# EAGLE library part VARISCITE_DART-SD410 (library m_som)
Variscite DART-SD410 System on Module Snapdragon TM 410 - based System-on-Module 1.1. General Information The DART-SD410 is a high performance System-on-Module. It provides an ideal building block that easily integrates with a wide range of target markets requiring rich multimedia functionality, powerful graphics and video capabilities, as well as high-processing power. Compact, cost effective and with low power consumption, the DART-SD410 is in ideal choice for a high end products. Supporting products: VAR-SD410CustomBoard – evaluation board Carrier-Board, compatible with DART-SD410 Schematics Dual CSI Camera extension board O.S support Linux BSP Android Windows 10 (coming soon) Contact Variscite support services for further information: mailto:support@variscite.com. 1.2. Feature Summary Qualcomm Snapdragon 410 Quad Core ARM® CortexTM-A53, 64 bit, 1.2 GHz Memory: up to 16GB eMMC and 2GB LPDDR3 (32-bit up to 533MHz) Display: 1 x MIPI-DSI 4-lane - HD (1280 x 720) 60 fps; 16/18/24 bpp RGB Camera: 2 x MIPI-CSI, 4-lane up to 13MP and 2-lane up to 8MP Wi-Fi/BT/FM Connectivity IC with single band 2.4GHz 802.11 b/g/n, Bluetooth 4.0/BLE and backward BT2.1+EDR / BT3.0, Worldwide FM radio GNSS receiver for GPS, BeiDou and GLONASS or Galileo operation 1 x USB2.0 Host/Device 1 x SD/MMC Serial interfaces (SPI, I2C, UART, I2S, UIM) JTAG 2 x Microphone In, Stereo headphones out, Speaker Out Digital microphone Single 3.7V-4.5V power supply 2 x 90 pin Board to Board Connectors Small size: 25mm x 43mm x 4mm Added 2016-06-25 Updated 2016-08-15
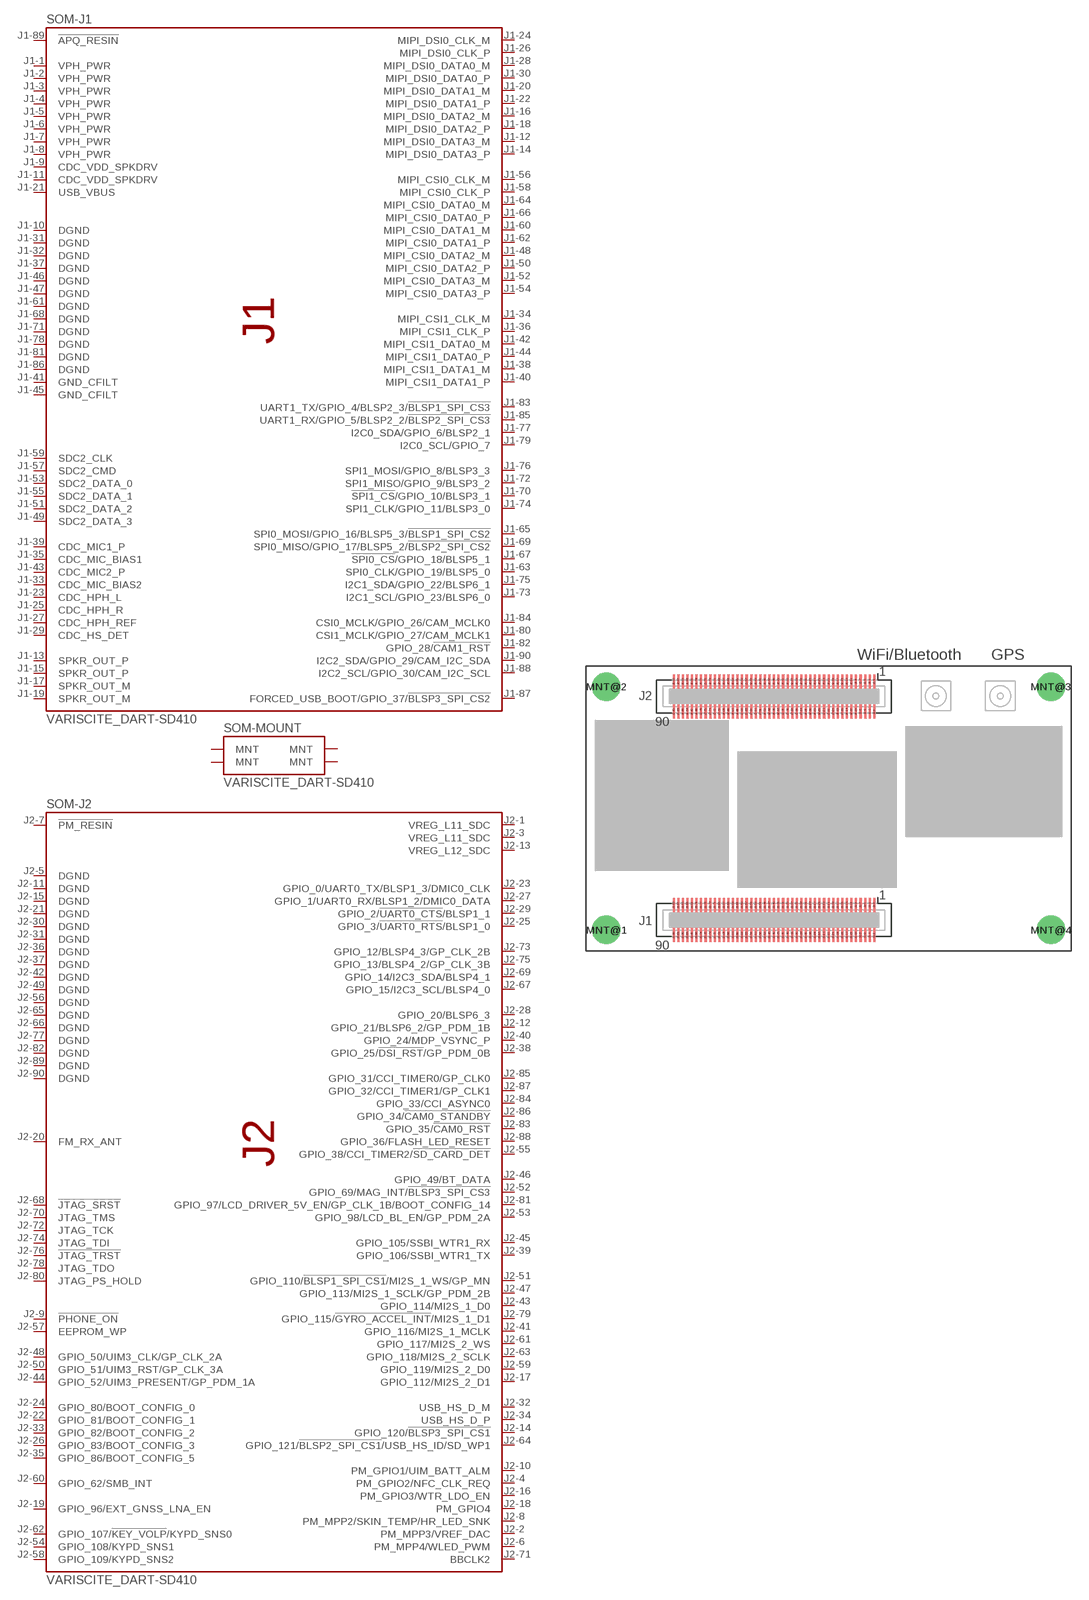
[diagram p0: symbol with the pads of VARISCITE_DART-SD410; footprint VARISCITE_DART-SD410]

Designator prefix SOM; gates -J1=VARISCITE_DART-SD410_J1 -J2=VARISCITE_DART-SD410_J2 -MOUNT=VARISCITE_DART-SD410_MOUNT

## VARISCITE_DART-SD410 (MANUF: Variscite; PARTNUM: DART-SD410_1024R_8G_WB_GP)  [VARISCITE_DART-SD410]
J1-1  -J1:VPH_PWR  pas
J1-2  -J1:VPH_PWR  pas
J1-3  -J1:VPH_PWR  pas
J1-4  -J1:VPH_PWR  pas
J1-5  -J1:VPH_PWR  pas
J1-6  -J1:VPH_PWR  pas
J1-7  -J1:VPH_PWR  pas
J1-8  -J1:VPH_PWR  pas
J1-9  -J1:CDC_VDD_SPKDRV  pas
J1-10  -J1:DGND  pas
J1-11  -J1:CDC_VDD_SPKDRV  pas
J1-12  -J1:MIPI_DSI0_DATA3_M  pas
J1-13  -J1:SPKR_OUT_P  pas
J1-14  -J1:MIPI_DSI0_DATA3_P  pas
J1-15  -J1:SPKR_OUT_P  pas
J1-16  -J1:MIPI_DSI0_DATA2_M  pas
J1-17  -J1:SPKR_OUT_M  pas
J1-18  -J1:MIPI_DSI0_DATA2_P  pas
J1-19  -J1:SPKR_OUT_M  pas
J1-20  -J1:MIPI_DSI0_DATA1_M  pas
J1-21  -J1:USB_VBUS  pas
J1-22  -J1:MIPI_DSI0_DATA1_P  pas
J1-23  -J1:CDC_HPH_L  pas
J1-24  -J1:MIPI_DSI0_CLK_M  pas
J1-25  -J1:CDC_HPH_R  pas
J1-26  -J1:MIPI_DSI0_CLK_P  pas
J1-27  -J1:CDC_HPH_REF  pas
J1-28  -J1:MIPI_DSI0_DATA0_M  pas
J1-29  -J1:CDC_HS_DET  pas
J1-30  -J1:MIPI_DSI0_DATA0_P  pas
J1-31  -J1:DGND  pas
J1-32  -J1:DGND  pas
J1-33  -J1:CDC_MIC_BIAS2  pas
J1-34  -J1:MIPI_CSI1_CLK_M  pas
J1-35  -J1:CDC_MIC_BIAS1  pas
J1-36  -J1:MIPI_CSI1_CLK_P  pas
J1-37  -J1:DGND  pas
J1-38  -J1:MIPI_CSI1_DATA1_M  pas
J1-39  -J1:CDC_MIC1_P  pas
J1-40  -J1:MIPI_CSI1_DATA1_P  pas
J1-41  -J1:GND_CFILT  pas
J1-42  -J1:MIPI_CSI1_DATA0_M  pas
J1-43  -J1:CDC_MIC2_P  pas
J1-44  -J1:MIPI_CSI1_DATA0_P  pas
J1-45  -J1:GND_CFILT  pas
J1-46  -J1:DGND  pas
J1-47  -J1:DGND  pas
J1-48  -J1:MIPI_CSI0_DATA2_M  pas
J1-49  -J1:SDC2_DATA_3  pas
J1-50  -J1:MIPI_CSI0_DATA2_P  pas
J1-51  -J1:SDC2_DATA_2  pas
J1-52  -J1:MIPI_CSI0_DATA3_M  pas
J1-53  -J1:SDC2_DATA_0  pas
J1-54  -J1:MIPI_CSI0_DATA3_P  pas
J1-55  -J1:SDC2_DATA_1  pas
J1-56  -J1:MIPI_CSI0_CLK_M  pas
J1-57  -J1:SDC2_CMD  pas
J1-58  -J1:MIPI_CSI0_CLK_P  pas
J1-59  -J1:SDC2_CLK  pas
J1-60  -J1:MIPI_CSI0_DATA1_M  pas
J1-61  -J1:DGND  pas
J1-62  -J1:MIPI_CSI0_DATA1_P  pas
J1-63  -J1:SPI0_CLK/GPIO_19/BLSP5_0  pas
J1-64  -J1:MIPI_CSI0_DATA0_M  pas
J1-65  -J1:SPI0_MOSI/GPIO_16/BLSP5_3/!BLSP1_SPI_CS2!  pas
J1-66  -J1:MIPI_CSI0_DATA0_P  pas
J1-67  -J1:!SPI0_CS!/GPIO_18/BLSP5_1  pas
J1-68  -J1:DGND  pas
J1-69  -J1:SPI0_MISO/GPIO_17/BLSP5_2/!BLSP2_SPI_CS2!  pas
J1-70  -J1:!SPI1_CS!/GPIO_10/BLSP3_1  pas
J1-71  -J1:DGND  pas
J1-72  -J1:SPI1_MISO/GPIO_9/BLSP3_2  pas
J1-73  -J1:I2C1_SCL/GPIO_23/BLSP6_0  pas
J1-74  -J1:SPI1_CLK/GPIO_11/BLSP3_0  pas
J1-75  -J1:I2C1_SDA/GPIO_22/BLSP6_1  pas
J1-76  -J1:SPI1_MOSI/GPIO_8/BLSP3_3  pas
J1-77  -J1:I2C0_SDA/GPIO_6/BLSP2_1  pas
J1-78  -J1:DGND  pas
J1-79  -J1:I2C0_SCL/GPIO_7  pas
J1-80  -J1:CSI1_MCLK/GPIO_27/CAM_MCLK1  pas
J1-81  -J1:DGND  pas
J1-82  -J1:GPIO_28/!CAM1_RST!  pas
J1-83  -J1:UART1_TX/GPIO_4/BLSP2_3/!BLSP1_SPI_CS3!  pas
J1-84  -J1:CSI0_MCLK/GPIO_26/CAM_MCLK0  pas
J1-85  -J1:UART1_RX/GPIO_5/BLSP2_2/!BLSP2_SPI_CS3!  pas
J1-86  -J1:DGND  pas
J1-87  -J1:FORCED_USB_BOOT/GPIO_37/!BLSP3_SPI_CS2!  pas
J1-88  -J1:I2C2_SCL/GPIO_30/CAM_I2C_SCL  pas
J1-89  -J1:!APQ_RESIN  pas
J1-90  -J1:I2C2_SDA/GPIO_29/CAM_I2C_SDA  pas
J2-1  -J2:VREG_L11_SDC  pas
J2-2  -J2:PM_MPP3/VREF_DAC  pas
J2-3  -J2:VREG_L11_SDC  pas
J2-4  -J2:PM_GPIO2/NFC_CLK_REQ  pas
J2-5  -J2:DGND  pas
J2-6  -J2:PM_MPP4/WLED_PWM  pas
J2-7  -J2:!PM_RESIN  pas
J2-8  -J2:PM_MPP2/SKIN_TEMP/HR_LED_SNK  pas
J2-9  -J2:!PHONE_ON  pas
J2-10  -J2:PM_GPIO1/UIM_BATT_ALM  pas
J2-11  -J2:DGND  pas
J2-12  -J2:GPIO_21/BLSP6_2/GP_PDM_1B  pas
J2-13  -J2:VREG_L12_SDC  pas
J2-14  -J2:GPIO_120/!BLSP3_SPI_CS1  pas
J2-15  -J2:DGND  pas
J2-16  -J2:PM_GPIO3/WTR_LDO_EN  pas
J2-17  -J2:GPIO_112/MI2S_2_D1  pas
J2-18  -J2:PM_GPIO4  pas
J2-19  -J2:GPIO_96/EXT_GNSS_LNA_EN  pas
J2-20  -J2:FM_RX_ANT  pas
J2-21  -J2:DGND  pas
J2-22  -J2:GPIO_81/BOOT_CONFIG_1  pas
J2-23  -J2:GPIO_0/UART0_TX/BLSP1_3/DMIC0_CLK  pas
J2-24  -J2:GPIO_80/BOOT_CONFIG_0  pas
J2-25  -J2:GPIO_3/!UART0_RTS!/BLSP1_0  pas
J2-26  -J2:GPIO_83/BOOT_CONFIG_3  pas
J2-27  -J2:GPIO_1/UART0_RX/BLSP1_2/DMIC0_DATA  pas
J2-28  -J2:GPIO_20/BLSP6_3  pas
J2-29  -J2:GPIO_2/!UART0_CTS!/BLSP1_1  pas
J2-30  -J2:DGND  pas
J2-31  -J2:DGND  pas
J2-32  -J2:USB_HS_D_M  pas
J2-33  -J2:GPIO_82/BOOT_CONFIG_2  pas
J2-34  -J2:USB_HS_D_P  pas
J2-35  -J2:GPIO_86/BOOT_CONFIG_5  pas
J2-36  -J2:DGND  pas
J2-37  -J2:DGND  pas
J2-38  -J2:GPIO_25/!DSI_RST!/GP_PDM_0B  pas
J2-39  -J2:GPIO_106/SSBI_WTR1_TX  pas
J2-40  -J2:GPIO_24/MDP_VSYNC_P  pas
J2-41  -J2:GPIO_116/MI2S_1_MCLK  pas
J2-42  -J2:DGND  pas
J2-43  -J2:GPIO_114/MI2S_1_D0  pas
J2-44  -J2:GPIO_52/UIM3_PRESENT/GP_PDM_1A  pas
J2-45  -J2:GPIO_105/SSBI_WTR1_RX  pas
J2-46  -J2:GPIO_49/BT_DATA  pas
J2-47  -J2:GPIO_113/MI2S_1_SCLK/GP_PDM_2B  pas
J2-48  -J2:GPIO_50/UIM3_CLK/GP_CLK_2A  pas
J2-49  -J2:DGND  pas
J2-50  -J2:GPIO_51/UIM3_RST/GP_CLK_3A  pas
J2-51  -J2:GPIO_110/!BLSP1_SPI_CS1!/MI2S_1_WS/GP_MN  pas
J2-52  -J2:GPIO_69/MAG_INT/!BLSP3_SPI_CS3  pas
J2-53  -J2:GPIO_98/LCD_BL_EN/GP_PDM_2A  pas
J2-54  -J2:GPIO_108/KYPD_SNS1  pas
J2-55  -J2:GPIO_38/CCI_TIMER2/!SD_CARD_DET!  pas
J2-56  -J2:DGND  pas
J2-57  -J2:EEPROM_WP  pas
J2-58  -J2:GPIO_109/KYPD_SNS2  pas
J2-59  -J2:GPIO_119/MI2S_2_D0  pas
J2-60  -J2:GPIO_62/SMB_INT  pas
J2-61  -J2:GPIO_117/MI2S_2_WS  pas
J2-62  -J2:GPIO_107/!KEY_VOLP!/KYPD_SNS0  pas
J2-63  -J2:GPIO_118/MI2S_2_SCLK  pas
J2-64  -J2:GPIO_121/!BLSP2_SPI_CS1!/USB_HS_ID/SD_WP1  pas
J2-65  -J2:DGND  pas
J2-66  -J2:DGND  pas
J2-67  -J2:GPIO_15/I2C3_SCL/BLSP4_0  pas
J2-68  -J2:!JTAG_SRST  pas
J2-69  -J2:GPIO_14/I2C3_SDA/BLSP4_1  pas
J2-70  -J2:JTAG_TMS  pas
J2-71  -J2:BBCLK2  pas
J2-72  -J2:JTAG_TCK  pas
J2-73  -J2:GPIO_12/BLSP4_3/GP_CLK_2B  pas
J2-74  -J2:JTAG_TDI  pas
J2-75  -J2:GPIO_13/BLSP4_2/GP_CLK_3B  pas
J2-76  -J2:!JTAG_TRST  pas
J2-77  -J2:DGND  pas
J2-78  -J2:JTAG_TDO  pas
J2-79  -J2:GPIO_115/!GYRO_ACCEL_INT!/MI2S_1_D1  pas
J2-80  -J2:JTAG_PS_HOLD  pas
J2-81  -J2:GPIO_97/LCD_DRIVER_5V_EN/GP_CLK_1B/BOOT_CONFIG_14  pas
J2-82  -J2:DGND  pas
J2-83  -J2:GPIO_35/!CAM0_RST  pas
J2-84  -J2:GPIO_33/CCI_ASYNC0  pas
J2-85  -J2:GPIO_31/CCI_TIMER0/GP_CLK0  pas
J2-86  -J2:GPIO_34/!CAM0_STANDBY  pas
J2-87  -J2:GPIO_32/CCI_TIMER1/GP_CLK1  pas
J2-88  -J2:GPIO_36/FLASH_LED_RESET  pas
J2-89  -J2:DGND  pas
J2-90  -J2:DGND  pas
MNT@1  -MOUNT:MNT  pas
MNT@2  -MOUNT:MNT  pas
MNT@3  -MOUNT:MNT  pas
MNT@4  -MOUNT:MNT  pas

## Footprint VARISCITE_DART-SD410 (pad centres in mm)
Variscite DART-SD410 System on Module Created from data in Variscite module datasheet version 1.0, ￼2016-01-13 as well as Variscite DXF file "DART-SD410_REV_1-0.dxf". Module requires 2 Hirose DF40C-90DS-0.4V(51) connectors. Each is a dual-row, 90-pin, 0.4mm pitch connector. The connector footprint uses 0.05mm soldermask clearance. Added 2016-08-23.
smd 0.2 x 1.15: J1-1 4.006,-8.475; J1-2 4.006,-11.125; J1-3 3.606,-8.475; J1-4 3.606,-11.125; J1-5 3.206,-8.475; J1-6 3.206,-11.125; J1-7 2.806,-8.475; J1-8 2.806,-11.125; J1-9 2.406,-8.475; J1-10 2.406,-11.125; J1-11 2.006,-8.475; J1-12 2.006,-11.125; J1-13 1.606,-8.475; J1-14 1.606,-11.125; J1-15 1.206,-8.475; J1-16 1.206,-11.125; J1-17 0.806,-8.475; J1-18 0.806,-11.125; J1-19 0.406,-8.475; J1-20 0.406,-11.125; J1-21 0.006,-8.475; J1-22 0.006,-11.125; J1-23 -0.394,-8.475; J1-24 -0.394,-11.125; J1-25 -0.794,-8.475; J1-26 -0.794,-11.125; J1-27 -1.194,-8.475; J1-28 -1.194,-11.125; J1-29 -1.594,-8.475; J1-30 -1.594,-11.125; J1-31 -1.994,-8.475; J1-32 -1.994,-11.125; J1-33 -2.394,-8.475; J1-34 -2.394,-11.125; J1-35 -2.794,-8.475; J1-36 -2.794,-11.125; J1-37 -3.194,-8.475; J1-38 -3.194,-11.125; J1-39 -3.594,-8.475; J1-40 -3.594,-11.125; J1-41 -3.994,-8.475; J1-42 -3.994,-11.125; J1-43 -4.394,-8.475; J1-44 -4.394,-11.125; J1-45 -4.794,-8.475; J1-46 -4.794,-11.125; J1-47 -5.194,-8.475; J1-48 -5.194,-11.125; J1-49 -5.594,-8.475; J1-50 -5.594,-11.125; J1-51 -5.994,-8.475; J1-52 -5.994,-11.125; J1-53 -6.394,-8.475; J1-54 -6.394,-11.125; J1-55 -6.794,-8.475; J1-56 -6.794,-11.125; J1-57 -7.194,-8.475; J1-58 -7.194,-11.125; J1-59 -7.594,-8.475; J1-60 -7.594,-11.125; J1-61 -7.994,-8.475; J1-62 -7.994,-11.125; J1-63 -8.394,-8.475; J1-64 -8.394,-11.125; J1-65 -8.794,-8.475; J1-66 -8.794,-11.125; J1-67 -9.194,-8.475; J1-68 -9.194,-11.125; J1-69 -9.594,-8.475; J1-70 -9.594,-11.125; J1-71 -9.994,-8.475; J1-72 -9.994,-11.125; J1-73 -10.394,-8.475; J1-74 -10.394,-11.125; J1-75 -10.794,-8.475; J1-76 -10.794,-11.125; J1-77 -11.194,-8.475; J1-78 -11.194,-11.125; J1-79 -11.594,-8.475; J1-80 -11.594,-11.125; J1-81 -11.994,-8.475; J1-82 -11.994,-11.125; J1-83 -12.394,-8.475; J1-84 -12.394,-11.125; J1-85 -12.794,-8.475; J1-86 -12.794,-11.125; J1-87 -13.194,-8.475; J1-88 -13.194,-11.125; J1-89 -13.594,-8.475; J1-90 -13.594,-11.125; J2-1 4.006,11.149; J2-2 4.006,8.499; J2-3 3.606,11.149; J2-4 3.606,8.499; J2-5 3.206,11.149; J2-6 3.206,8.499; J2-7 2.806,11.149; J2-8 2.806,8.499; J2-9 2.406,11.149; J2-10 2.406,8.499; J2-11 2.006,11.149; J2-12 2.006,8.499; J2-13 1.606,11.149; J2-14 1.606,8.499; J2-15 1.206,11.149; J2-16 1.206,8.499; J2-17 0.806,11.149; J2-18 0.806,8.499; J2-19 0.406,11.149; J2-20 0.406,8.499; J2-21 0.006,11.149; J2-22 0.006,8.499; J2-23 -0.394,11.149; J2-24 -0.394,8.499; J2-25 -0.794,11.149; J2-26 -0.794,8.499; J2-27 -1.194,11.149; J2-28 -1.194,8.499; J2-29 -1.594,11.149; J2-30 -1.594,8.499; J2-31 -1.994,11.149; J2-32 -1.994,8.499; J2-33 -2.394,11.149; J2-34 -2.394,8.499; J2-35 -2.794,11.149; J2-36 -2.794,8.499; J2-37 -3.194,11.149; J2-38 -3.194,8.499; J2-39 -3.594,11.149; J2-40 -3.594,8.499; J2-41 -3.994,11.149; J2-42 -3.994,8.499; J2-43 -4.394,11.149; J2-44 -4.394,8.499; J2-45 -4.794,11.149; J2-46 -4.794,8.499; J2-47 -5.194,11.149; J2-48 -5.194,8.499; J2-49 -5.594,11.149; J2-50 -5.594,8.499; J2-51 -5.994,11.149; J2-52 -5.994,8.499; J2-53 -6.394,11.149; J2-54 -6.394,8.499; J2-55 -6.794,11.149; J2-56 -6.794,8.499; J2-57 -7.194,11.149; J2-58 -7.194,8.499; J2-59 -7.594,11.149; J2-60 -7.594,8.499; J2-61 -7.994,11.149; J2-62 -7.994,8.499; J2-63 -8.394,11.149; J2-64 -8.394,8.499; J2-65 -8.794,11.149; J2-66 -8.794,8.499; J2-67 -9.194,11.149; J2-68 -9.194,8.499; J2-69 -9.594,11.149; J2-70 -9.594,8.499; J2-71 -9.994,11.149; J2-72 -9.994,8.499; J2-73 -10.394,11.149; J2-74 -10.394,8.499; J2-75 -10.794,11.149; J2-76 -10.794,8.499; J2-77 -11.194,11.149; J2-78 -11.194,8.499; J2-79 -11.594,11.149; J2-80 -11.594,8.499; J2-81 -11.994,11.149; J2-82 -11.994,8.499; J2-83 -12.394,11.149; J2-84 -12.394,8.499; J2-85 -12.794,11.149; J2-86 -12.794,8.499; J2-87 -13.194,11.149; J2-88 -13.194,8.499; J2-89 -13.594,11.149; J2-90 -13.594,8.499
drill 1.5 pad 2.5: MNT@1 -19.505,-10.67; MNT@2 -19.505,10.69; MNT@3 19.515,10.69; MNT@4 19.515,-10.67